# Altium integrated library TI_Logic_Flip-Flop,Latch,Register.IntLib: 2598 symbols (part 55 of 122)
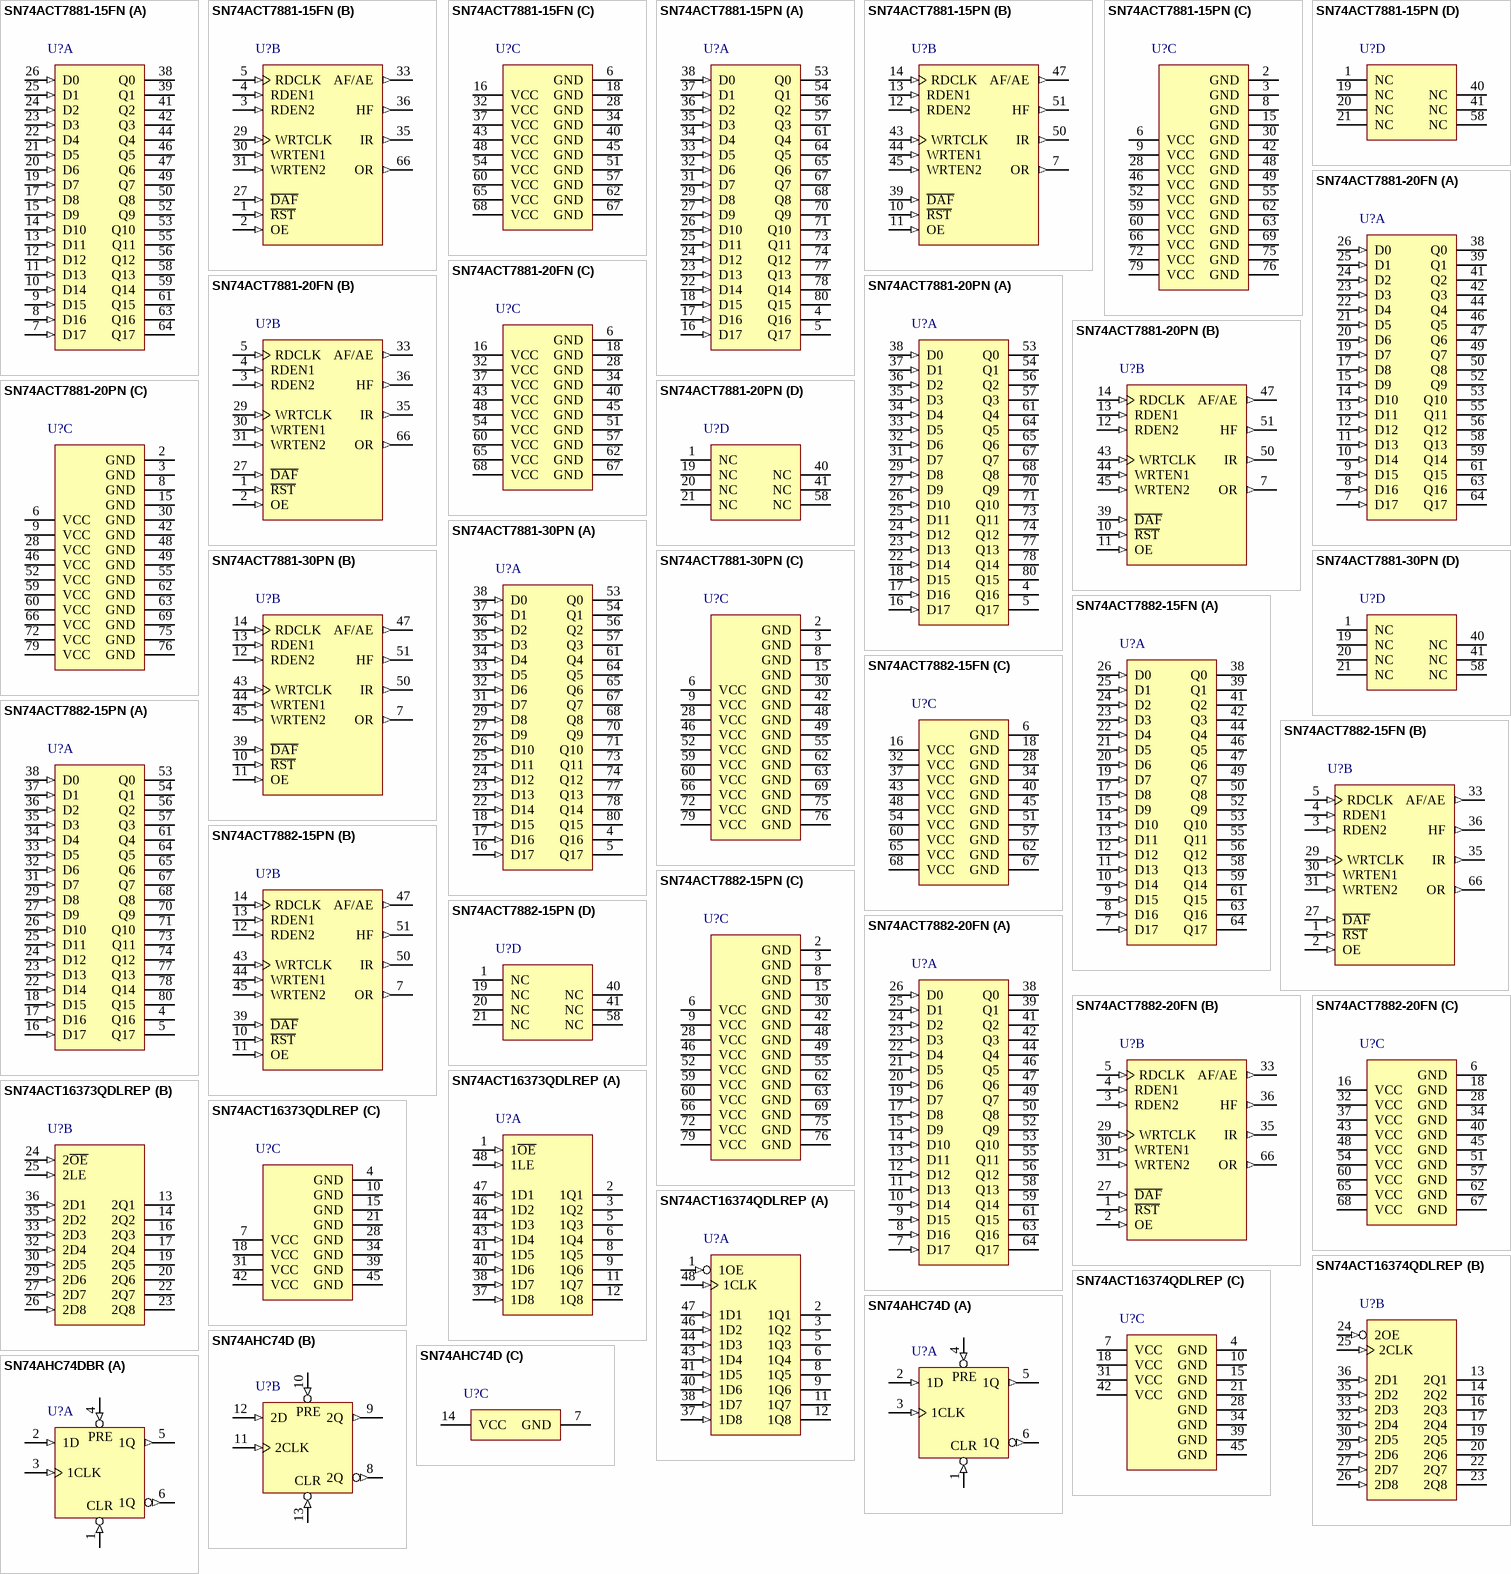
[diagram p193: symbols SN74ACT7881-15FN to SN74AHC74DBR]

## SN74ACT7882-15FN
designator U?
2048 x 18 synchronous FIFO memory, FN0068A, TUBE; Generic Part Number: SN74ACT7882; Manufacturer: Texas Instruments; PartNumber: SN74ACT7882-15FN; Fmax(MHz): 67; Voltage Nodes(V): 5; Sync/Async: S; Rating: Catalog; Output Drive(mA): -0.5; DatasheetVersion: SCAS445C; PackageReference: FN0068A; Depth: 2048; Width: 18; Code_JEDEC: MS-018; ComponentLink1Description: Manufacturer URL; ComponentLink1URL: http://www.ti.com/; ComponentLink2Description: Datasheet; ComponentLink2URL: http://www.ti.com/lit/ds/symlink/sn74act7882.pdf; ComponentLink3Description: Package Specification; ComponentLink3URL: http://www.ti.com/lit/ml/mplc004a/mplc004a.pdf
footprint FN0068A_N (Leaded Chip Carrier, 68-Leads, Body 24.33x24.33mm, Pitch 1.27mm, IPC Medium Density)
footprint FN0068A_M (Leaded Chip Carrier, 68-Leads, Body 24.33x24.33mm, Pitch 1.27mm, IPC Low Density)
footprint FN0068A_L (Leaded Chip Carrier, 68-Leads, Body 24.33x24.33mm, Pitch 1.27mm, IPC High Density)
part A pins: 7 D17 (in) "Data inputs for 18-bit-wide data to be stored in the memory. A high-to-low transition on D\A\F\ captures data for the almost-empty/almost-full offset (X) from D9-D0.", 8 D16 (in) "Data inputs for 18-bit-wide data to be stored in the memory. A high-to-low transition on D\A\F\ captures data for the almost-empty/almost-full offset (X) from D9-D0.", 9 D15 (in) "Data inputs for 18-bit-wide data to be stored in the memory. A high-to-low transition on D\A\F\ captures data for the almost-empty/almost-full offset (X) from D9-D0.", 10 D14 (in) "Data inputs for 18-bit-wide data to be stored in the memory. A high-to-low transition on D\A\F\ captures data for the almost-empty/almost-full offset (X) from D9-D0.", 11 D13 (in) "Data inputs for 18-bit-wide data to be stored in the memory. A high-to-low transition on D\A\F\ captures data for the almost-empty/almost-full offset (X) from D9-D0.", 12 D12 (in) "Data inputs for 18-bit-wide data to be stored in the memory. A high-to-low transition on D\A\F\ captures data for the almost-empty/almost-full offset (X) from D9-D0.", 13 D11 (in) "Data inputs for 18-bit-wide data to be stored in the memory. A high-to-low transition on D\A\F\ captures data for the almost-empty/almost-full offset (X) from D9-D0.", 14 D10 (in) "Data inputs for 18-bit-wide data to be stored in the memory. A high-to-low transition on D\A\F\ captures data for the almost-empty/almost-full offset (X) from D9-D0.", 15 D9 (in) "Data inputs for 18-bit-wide data to be stored in the memory. A high-to-low transition on D\A\F\ captures data for the almost-empty/almost-full offset (X) from D9-D0.", 17 D8 (in) "Data inputs for 18-bit-wide data to be stored in the memory. A high-to-low transition on D\A\F\ captures data for the almost-empty/almost-full offset (X) from D9-D0.", 19 D7 (in) "Data inputs for 18-bit-wide data to be stored in the memory. A high-to-low transition on D\A\F\ captures data for the almost-empty/almost-full offset (X) from D9-D0.", 20 D6 (in) "Data inputs for 18-bit-wide data to be stored in the memory. A high-to-low transition on D\A\F\ captures data for the almost-empty/almost-full offset (X) from D9-D0.", 21 D5 (in) "Data inputs for 18-bit-wide data to be stored in the memory. A high-to-low transition on D\A\F\ captures data for the almost-empty/almost-full offset (X) from D9-D0.", 22 D4 (in) "Data inputs for 18-bit-wide data to be stored in the memory. A high-to-low transition on D\A\F\ captures data for the almost-empty/almost-full offset (X) from D9-D0.", 23 D3 (in) "Data inputs for 18-bit-wide data to be stored in the memory. A high-to-low transition on D\A\F\ captures data for the almost-empty/almost-full offset (X) from D9-D0.", 24 D2 (in) "Data inputs for 18-bit-wide data to be stored in the memory. A high-to-low transition on D\A\F\ captures data for the almost-empty/almost-full offset (X) from D9-D0.", 25 D1 (in) "Data inputs for 18-bit-wide data to be stored in the memory. A high-to-low transition on D\A\F\ captures data for the almost-empty/almost-full offset (X) from D9-D0.", 26 D0 (in) "Data inputs for 18-bit-wide data to be stored in the memory. A high-to-low transition on D\A\F\ captures data for the almost-empty/almost-full offset (X) from D9-D0.", 38 Q0 (hiz) "Data out. The first data word to be loaded into the FIFO is moved to Q0-Q17 on the rising edge of the third RDCLK pulse to occur after the first valid write. RDEN1 and RDEN2 do not affect this operation. Following data is (See Datasheet)", 39 Q1 (hiz) "Data out. The first data word to be loaded into the FIFO is moved to Q0-Q17 on the rising edge of the third RDCLK pulse to occur after the first valid write. RDEN1 and RDEN2 do not affect this operation. Following data is (See Datasheet)", 41 Q2 (hiz) "Data out. The first data word to be loaded into the FIFO is moved to Q0-Q17 on the rising edge of the third RDCLK pulse to occur after the first valid write. RDEN1 and RDEN2 do not affect this operation. Following data is (See Datasheet)", 42 Q3 (hiz) "Data out. The first data word to be loaded into the FIFO is moved to Q0-Q17 on the rising edge of the third RDCLK pulse to occur after the first valid write. RDEN1 and RDEN2 do not affect this operation. Following data is (See Datasheet)", 44 Q4 (hiz) "Data out. The first data word to be loaded into the FIFO is moved to Q0-Q17 on the rising edge of the third RDCLK pulse to occur after the first valid write. RDEN1 and RDEN2 do not affect this operation. Following data is (See Datasheet)", 46 Q5 (hiz) "Data out. The first data word to be loaded into the FIFO is moved to Q0-Q17 on the rising edge of the third RDCLK pulse to occur after the first valid write. RDEN1 and RDEN2 do not affect this operation. Following data is (See Datasheet)", 47 Q6 (hiz) "Data out. The first data word to be loaded into the FIFO is moved to Q0-Q17 on the rising edge of the third RDCLK pulse to occur after the first valid write. RDEN1 and RDEN2 do not affect this operation. Following data is (See Datasheet)", 49 Q7 (hiz) "Data out. The first data word to be loaded into the FIFO is moved to Q0-Q17 on the rising edge of the third RDCLK pulse to occur after the first valid write. RDEN1 and RDEN2 do not affect this operation. Following data is (See Datasheet)", 50 Q8 (hiz) "Data out. The first data word to be loaded into the FIFO is moved to Q0-Q17 on the rising edge of the third RDCLK pulse to occur after the first valid write. RDEN1 and RDEN2 do not affect this operation. Following data is (See Datasheet)", 52 Q9 (hiz) "Data out. The first data word to be loaded into the FIFO is moved to Q0-Q17 on the rising edge of the third RDCLK pulse to occur after the first valid write. RDEN1 and RDEN2 do not affect this operation. Following data is (See Datasheet)", 53 Q10 (hiz) "Data out. The first data word to be loaded into the FIFO is moved to Q0-Q17 on the rising edge of the third RDCLK pulse to occur after the first valid write. RDEN1 and RDEN2 do not affect this operation. Following data is (See Datasheet)", 55 Q11 (hiz) "Data out. The first data word to be loaded into the FIFO is moved to Q0-Q17 on the rising edge of the third RDCLK pulse to occur after the first valid write. RDEN1 and RDEN2 do not affect this operation. Following data is (See Datasheet)", 56 Q12 (hiz) "Data out. The first data word to be loaded into the FIFO is moved to Q0-Q17 on the rising edge of the third RDCLK pulse to occur after the first valid write. RDEN1 and RDEN2 do not affect this operation. Following data is (See Datasheet)", 58 Q13 (hiz) "Data out. The first data word to be loaded into the FIFO is moved to Q0-Q17 on the rising edge of the third RDCLK pulse to occur after the first valid write. RDEN1 and RDEN2 do not affect this operation. Following data is (See Datasheet)", 59 Q14 (hiz) "Data out. The first data word to be loaded into the FIFO is moved to Q0-Q17 on the rising edge of the third RDCLK pulse to occur after the first valid write. RDEN1 and RDEN2 do not affect this operation. Following data is (See Datasheet)", 61 Q15 (hiz) "Data out. The first data word to be loaded into the FIFO is moved to Q0-Q17 on the rising edge of the third RDCLK pulse to occur after the first valid write. RDEN1 and RDEN2 do not affect this operation. Following data is (See Datasheet)", 63 Q16 (hiz) "Data out. The first data word to be loaded into the FIFO is moved to Q0-Q17 on the rising edge of the third RDCLK pulse to occur after the first valid write. RDEN1 and RDEN2 do not affect this operation. Following data is (See Datasheet)", 64 Q17 (hiz) "Data out. The first data word to be loaded into the FIFO is moved to Q0-Q17 on the rising edge of the third RDCLK pulse to occur after the first valid write. RDEN1 and RDEN2 do not affect this operation. Following data is (See Datasheet)"
part B pins: 1 ~{RST} (in) "Reset. A reset is accomplished by taking R\E\S\E\T\ low and generating a minimum of four RDCLK and WRTCLK cycles. This ensures that the internal read and write pointers are reset and that OR, HF, and IR are low, and AF/AE is (See Datasheet)", 2 OE (in) "Output enable. The Q0-Q17 outputs are in the high-impedance state when OE is low. OE must be high before the rising edge of RDCLK to read a word from memory.", 3 RDEN2 (in) "Read enable. RDEN1 and RDEN2 must be high before a rising edge on RDCLK to read a word out of memory. RDEN1 and RDEN2 are not used to read the first word stored in memory.", 4 RDEN1 (in) "Read enable. RDEN1 and RDEN2 must be high before a rising edge on RDCLK to read a word out of memory. RDEN1 and RDEN2 are not used to read the first word stored in memory.", 5 RDCLK (in) "Read clock. Data is read out of memory on the low-to-high transition at RDCLK if OR, OE, and RDEN1 and RDEN2 are high. RDCLK is a free-running clock and functions as the synchronizing clock for all data transfers out of the (See Datasheet)", 27 ~{DAF} (in) "Define almost-full. The high-to-low transition of D\A\F\ stores the binary value of data inputs as the AF/AE offset value (X). With D\A\F\ held low, a R\E\S\E\T\ cycle defines the AF/AE flag using X.", 29 WRTCLK (in) "Write clock. Data is written into memory on a low-to-high transition of WRTCLK if IR, WRTEN1, and WRTEN2 are high. WRTCLK is a free-running clock and functions as the synchronizing clock for all data transfers into the FIFO. (See Datasheet)", 30 WRTEN1 (in) "Write enable. WRTEN1 and WRTEN2 must be high before a rising edge on WRTCLK for a word to be written into memory. WRTEN1 and WRTEN2 do not affect the storage of the AF/AE offset value (X).", 31 WRTEN2 (in) "Write enable. WRTEN1 and WRTEN2 must be high before a rising edge on WRTCLK for a word to be written into memory. WRTEN1 and WRTEN2 do not affect the storage of the AF/AE offset value (X).", 33 AF/AE (out) "Almost-full/almost-empty flag. The AF/AE boundary is defined by the AF/AE offset value (X). Thisvalue can be programmed during reset or the default value of 256 can be used. AF/AE is high when the number of words in memory (See Datasheet)", 35 IR (out) "Input-ready flag. IR is high when the FIFO is not full and low when the device is full. During reset, IR is driven low on the rising edge of the second WRTCLK pulse. IR then is driven high on the rising edge of the second (See Datasheet)", 36 HF (out) "Half-full flag. HF is high when the FIFO contains 1024 or more words and is low when the number of words in memory is less than half the depth of the FIFO.", 66 OR (out) "Output-ready flag. OR is high when the FIFO is not empty and low when it is empty. During reset, OR is set low on the rising edge of the third RDCLK pulse. OR is set high on the rising edge of the third RDCLK pulse to occur (See Datasheet)"
part C pins: 6 GND (power), 16 VCC (power), 18 GND (power), 28 GND (power), 32 VCC (power), 34 GND (power), 37 VCC (power), 40 GND (power), 43 VCC (power), 45 GND (power), 48 VCC (power), 51 GND (power), 54 VCC (power), 57 GND (power), 60 VCC (power), 62 GND (power), 65 VCC (power), 67 GND (power), 68 VCC (power)

## SN74ACT7882-15PN
designator U?
2048 x 18 synchronous FIFO memory, PN0080A, JEDEC TRAY (10+1); Generic Part Number: SN74ACT7882; Manufacturer: Texas Instruments; PartNumber: SN74ACT7882-15PN; Fmax(MHz): 67; Voltage Nodes(V): 5; Sync/Async: S; Rating: Catalog; Output Drive(mA): -0.5; DatasheetVersion: SCAS445C; PackageReference: PN0080A; Depth: 2048; Width: 18; Code_JEDEC: MS-026; ComponentLink1Description: Manufacturer URL; ComponentLink1URL: http://www.ti.com/; ComponentLink2Description: Datasheet; ComponentLink2URL: http://www.ti.com/lit/ds/symlink/sn74act7882.pdf; ComponentLink3Description: Package Specification; ComponentLink3URL: http://www.ti.com/lit/ml/mtqf010a/mtqf010a.pdf
footprint PN0080A_N (QFP, 80-Leads, Body 12x12mm, Pitch 0.5mm, IPC Medium Density)
footprint PN0080A_M (QFP, 80-Leads, Body 12x12mm, Pitch 0.5mm, IPC Low Density)
footprint PN0080A_L (QFP, 80-Leads, Body 12x12mm, Pitch 0.5mm, IPC High Density)
part A pins: 4 Q16 (hiz) "Data out. The first data word to be loaded into the FIFO is moved to Q0-Q17 on the rising edge of the third RDCLK pulse to occur after the first valid write. RDEN1 and RDEN2 do not affect this operation. Following data is (See Datasheet)", 5 Q17 (hiz) "Data out. The first data word to be loaded into the FIFO is moved to Q0-Q17 on the rising edge of the third RDCLK pulse to occur after the first valid write. RDEN1 and RDEN2 do not affect this operation. Following data is (See Datasheet)", 16 D17 (in) "Data inputs for 18-bit-wide data to be stored in the memory. A high-to-low transition on D\A\F\ captures data for the almost-empty/almost-full offset (X) from D9-D0.", 17 D16 (in) "Data inputs for 18-bit-wide data to be stored in the memory. A high-to-low transition on D\A\F\ captures data for the almost-empty/almost-full offset (X) from D9-D0.", 18 D15 (in) "Data inputs for 18-bit-wide data to be stored in the memory. A high-to-low transition on D\A\F\ captures data for the almost-empty/almost-full offset (X) from D9-D0.", 22 D14 (in) "Data inputs for 18-bit-wide data to be stored in the memory. A high-to-low transition on D\A\F\ captures data for the almost-empty/almost-full offset (X) from D9-D0.", 23 D13 (in) "Data inputs for 18-bit-wide data to be stored in the memory. A high-to-low transition on D\A\F\ captures data for the almost-empty/almost-full offset (X) from D9-D0.", 24 D12 (in) "Data inputs for 18-bit-wide data to be stored in the memory. A high-to-low transition on D\A\F\ captures data for the almost-empty/almost-full offset (X) from D9-D0.", 25 D11 (in) "Data inputs for 18-bit-wide data to be stored in the memory. A high-to-low transition on D\A\F\ captures data for the almost-empty/almost-full offset (X) from D9-D0.", 26 D10 (in) "Data inputs for 18-bit-wide data to be stored in the memory. A high-to-low transition on D\A\F\ captures data for the almost-empty/almost-full offset (X) from D9-D0.", 27 D9 (in) "Data inputs for 18-bit-wide data to be stored in the memory. A high-to-low transition on D\A\F\ captures data for the almost-empty/almost-full offset (X) from D9-D0.", 29 D8 (in) "Data inputs for 18-bit-wide data to be stored in the memory. A high-to-low transition on D\A\F\ captures data for the almost-empty/almost-full offset (X) from D9-D0.", 31 D7 (in) "Data inputs for 18-bit-wide data to be stored in the memory. A high-to-low transition on D\A\F\ captures data for the almost-empty/almost-full offset (X) from D9-D0.", 32 D6 (in) "Data inputs for 18-bit-wide data to be stored in the memory. A high-to-low transition on D\A\F\ captures data for the almost-empty/almost-full offset (X) from D9-D0.", 33 D5 (in) "Data inputs for 18-bit-wide data to be stored in the memory. A high-to-low transition on D\A\F\ captures data for the almost-empty/almost-full offset (X) from D9-D0.", 34 D4 (in) "Data inputs for 18-bit-wide data to be stored in the memory. A high-to-low transition on D\A\F\ captures data for the almost-empty/almost-full offset (X) from D9-D0.", 35 D3 (in) "Data inputs for 18-bit-wide data to be stored in the memory. A high-to-low transition on D\A\F\ captures data for the almost-empty/almost-full offset (X) from D9-D0.", 36 D2 (in) "Data inputs for 18-bit-wide data to be stored in the memory. A high-to-low transition on D\A\F\ captures data for the almost-empty/almost-full offset (X) from D9-D0.", 37 D1 (in) "Data inputs for 18-bit-wide data to be stored in the memory. A high-to-low transition on D\A\F\ captures data for the almost-empty/almost-full offset (X) from D9-D0.", 38 D0 (in) "Data inputs for 18-bit-wide data to be stored in the memory. A high-to-low transition on D\A\F\ captures data for the almost-empty/almost-full offset (X) from D9-D0.", 53 Q0 (hiz) "Data out. The first data word to be loaded into the FIFO is moved to Q0-Q17 on the rising edge of the third RDCLK pulse to occur after the first valid write. RDEN1 and RDEN2 do not affect this operation. Following data is (See Datasheet)", 54 Q1 (hiz) "Data out. The first data word to be loaded into the FIFO is moved to Q0-Q17 on the rising edge of the third RDCLK pulse to occur after the first valid write. RDEN1 and RDEN2 do not affect this operation. Following data is (See Datasheet)", 56 Q2 (hiz) "Data out. The first data word to be loaded into the FIFO is moved to Q0-Q17 on the rising edge of the third RDCLK pulse to occur after the first valid write. RDEN1 and RDEN2 do not affect this operation. Following data is (See Datasheet)", 57 Q3 (hiz) "Data out. The first data word to be loaded into the FIFO is moved to Q0-Q17 on the rising edge of the third RDCLK pulse to occur after the first valid write. RDEN1 and RDEN2 do not affect this operation. Following data is (See Datasheet)", 61 Q4 (hiz) "Data out. The first data word to be loaded into the FIFO is moved to Q0-Q17 on the rising edge of the third RDCLK pulse to occur after the first valid write. RDEN1 and RDEN2 do not affect this operation. Following data is (See Datasheet)", 64 Q5 (hiz) "Data out. The first data word to be loaded into the FIFO is moved to Q0-Q17 on the rising edge of the third RDCLK pulse to occur after the first valid write. RDEN1 and RDEN2 do not affect this operation. Following data is (See Datasheet)", 65 Q6 (hiz) "Data out. The first data word to be loaded into the FIFO is moved to Q0-Q17 on the rising edge of the third RDCLK pulse to occur after the first valid write. RDEN1 and RDEN2 do not affect this operation. Following data is (See Datasheet)", 67 Q7 (hiz) "Data out. The first data word to be loaded into the FIFO is moved to Q0-Q17 on the rising edge of the third RDCLK pulse to occur after the first valid write. RDEN1 and RDEN2 do not affect this operation. Following data is (See Datasheet)", 68 Q8 (hiz) "Data out. The first data word to be loaded into the FIFO is moved to Q0-Q17 on the rising edge of the third RDCLK pulse to occur after the first valid write. RDEN1 and RDEN2 do not affect this operation. Following data is (See Datasheet)", 70 Q9 (hiz) "Data out. The first data word to be loaded into the FIFO is moved to Q0-Q17 on the rising edge of the third RDCLK pulse to occur after the first valid write. RDEN1 and RDEN2 do not affect this operation. Following data is (See Datasheet)", 71 Q10 (hiz) "Data out. The first data word to be loaded into the FIFO is moved to Q0-Q17 on the rising edge of the third RDCLK pulse to occur after the first valid write. RDEN1 and RDEN2 do not affect this operation. Following data is (See Datasheet)", 73 Q11 (hiz) "Data out. The first data word to be loaded into the FIFO is moved to Q0-Q17 on the rising edge of the third RDCLK pulse to occur after the first valid write. RDEN1 and RDEN2 do not affect this operation. Following data is (See Datasheet)", 74 Q12 (hiz) "Data out. The first data word to be loaded into the FIFO is moved to Q0-Q17 on the rising edge of the third RDCLK pulse to occur after the first valid write. RDEN1 and RDEN2 do not affect this operation. Following data is (See Datasheet)", 77 Q13 (hiz) "Data out. The first data word to be loaded into the FIFO is moved to Q0-Q17 on the rising edge of the third RDCLK pulse to occur after the first valid write. RDEN1 and RDEN2 do not affect this operation. Following data is (See Datasheet)", 78 Q14 (hiz) "Data out. The first data word to be loaded into the FIFO is moved to Q0-Q17 on the rising edge of the third RDCLK pulse to occur after the first valid write. RDEN1 and RDEN2 do not affect this operation. Following data is (See Datasheet)", 80 Q15 (hiz) "Data out. The first data word to be loaded into the FIFO is moved to Q0-Q17 on the rising edge of the third RDCLK pulse to occur after the first valid write. RDEN1 and RDEN2 do not affect this operation. Following data is (See Datasheet)"
part B pins: 7 OR (out) "Output-ready flag. OR is high when the FIFO is not empty and low when it is empty. During reset, OR is set low on the rising edge of the third RDCLK pulse. OR is set high on the rising edge of the third RDCLK pulse to occur (See Datasheet)", 10 ~{RST} (in) "Reset. A reset is accomplished by taking R\E\S\E\T\ low and generating a minimum of four RDCLK and WRTCLK cycles. This ensures that the internal read and write pointers are reset and that OR, HF, and IR are low, and AF/AE is (See Datasheet)", 11 OE (in) "Output enable. The Q0-Q17 outputs are in the high-impedance state when OE is low. OE must be high before the rising edge of RDCLK to read a word from memory.", 12 RDEN2 (in) "Read enable. RDEN1 and RDEN2 must be high before a rising edge on RDCLK to read a word out of memory. RDEN1 and RDEN2 are not used to read the first word stored in memory.", 13 RDEN1 (in) "Read enable. RDEN1 and RDEN2 must be high before a rising edge on RDCLK to read a word out of memory. RDEN1 and RDEN2 are not used to read the first word stored in memory.", 14 RDCLK (in) "Read clock. Data is read out of memory on the low-to-high transition at RDCLK if OR, OE, and RDEN1 and RDEN2 are high. RDCLK is a free-running clock and functions as the synchronizing clock for all data transfers out of the (See Datasheet)", 39 ~{DAF} (in) "Define almost-full. The high-to-low transition of D\A\F\ stores the binary value of data inputs as the AF/AE offset value (X). With D\A\F\ held low, a R\E\S\E\T\ cycle defines the AF/AE flag using X.", 43 WRTCLK (in) "Write clock. Data is written into memory on a low-to-high transition of WRTCLK if IR, WRTEN1, and WRTEN2 are high. WRTCLK is a free-running clock and functions as the synchronizing clock for all data transfers into the FIFO. (See Datasheet)", 44 WRTEN1 (in) "Write enable. WRTEN1 and WRTEN2 must be high before a rising edge on WRTCLK for a word to be written into memory. WRTEN1 and WRTEN2 do not affect the storage of the AF/AE offset value (X).", 45 WRTEN2 (in) "Write enable. WRTEN1 and WRTEN2 must be high before a rising edge on WRTCLK for a word to be written into memory. WRTEN1 and WRTEN2 do not affect the storage of the AF/AE offset value (X).", 47 AF/AE (out) "Almost-full/almost-empty flag. The AF/AE boundary is defined by the AF/AE offset value (X). Thisvalue can be programmed during reset or the default value of 256 can be used. AF/AE is high when the number of words in memory (See Datasheet)", 50 IR (out) "Input-ready flag. IR is high when the FIFO is not full and low when the device is full. During reset, IR is driven low on the rising edge of the second WRTCLK pulse. IR then is driven high on the rising edge of the second (See Datasheet)", 51 HF (out) "Half-full flag. HF is high when the FIFO contains 1024 or more words and is low when the number of words in memory is less than half the depth of the FIFO."
part C pins: 2 GND (power), 3 GND (power), 6 VCC (power), 8 GND (power), 9 VCC (power), 15 GND (power), 28 VCC (power), 30 GND (power), 42 GND (power), 46 VCC (power), 48 GND (power), 49 GND (power), 52 VCC (power), 55 GND (power), 59 VCC (power), 60 VCC (power), 62 GND (power), 63 GND (power), 66 VCC (power), 69 GND (power), 72 VCC (power), 75 GND (power), 76 GND (power), 79 VCC (power)
part D pins: 1 NC, 19 NC, 20 NC, 21 NC, 40 NC, 41 NC, 58 NC

## SN74ACT7882-20FN
designator U?
2048 x 18 synchronous FIFO memory, FN0068A, TUBE; Generic Part Number: SN74ACT7882; Manufacturer: Texas Instruments; PartNumber: SN74ACT7882-20FN; Fmax(MHz): 67; Voltage Nodes(V): 5; Sync/Async: S; Rating: Catalog; Output Drive(mA): -0.5; DatasheetVersion: SCAS445C; PackageReference: FN0068A; Depth: 2048; Width: 18; Code_JEDEC: MS-018; ComponentLink1Description: Manufacturer URL; ComponentLink1URL: http://www.ti.com/; ComponentLink2Description: Datasheet; ComponentLink2URL: http://www.ti.com/lit/ds/symlink/sn74act7882.pdf; ComponentLink3Description: Package Specification; ComponentLink3URL: http://www.ti.com/lit/ml/mplc004a/mplc004a.pdf
footprint FN0068A_N (Leaded Chip Carrier, 68-Leads, Body 24.33x24.33mm, Pitch 1.27mm, IPC Medium Density)
footprint FN0068A_M (Leaded Chip Carrier, 68-Leads, Body 24.33x24.33mm, Pitch 1.27mm, IPC Low Density)
footprint FN0068A_L (Leaded Chip Carrier, 68-Leads, Body 24.33x24.33mm, Pitch 1.27mm, IPC High Density)
part A pins: 7 D17 (in) "Data inputs for 18-bit-wide data to be stored in the memory. A high-to-low transition on D\A\F\ captures data for the almost-empty/almost-full offset (X) from D9-D0.", 8 D16 (in) "Data inputs for 18-bit-wide data to be stored in the memory. A high-to-low transition on D\A\F\ captures data for the almost-empty/almost-full offset (X) from D9-D0.", 9 D15 (in) "Data inputs for 18-bit-wide data to be stored in the memory. A high-to-low transition on D\A\F\ captures data for the almost-empty/almost-full offset (X) from D9-D0.", 10 D14 (in) "Data inputs for 18-bit-wide data to be stored in the memory. A high-to-low transition on D\A\F\ captures data for the almost-empty/almost-full offset (X) from D9-D0.", 11 D13 (in) "Data inputs for 18-bit-wide data to be stored in the memory. A high-to-low transition on D\A\F\ captures data for the almost-empty/almost-full offset (X) from D9-D0.", 12 D12 (in) "Data inputs for 18-bit-wide data to be stored in the memory. A high-to-low transition on D\A\F\ captures data for the almost-empty/almost-full offset (X) from D9-D0.", 13 D11 (in) "Data inputs for 18-bit-wide data to be stored in the memory. A high-to-low transition on D\A\F\ captures data for the almost-empty/almost-full offset (X) from D9-D0.", 14 D10 (in) "Data inputs for 18-bit-wide data to be stored in the memory. A high-to-low transition on D\A\F\ captures data for the almost-empty/almost-full offset (X) from D9-D0.", 15 D9 (in) "Data inputs for 18-bit-wide data to be stored in the memory. A high-to-low transition on D\A\F\ captures data for the almost-empty/almost-full offset (X) from D9-D0.", 17 D8 (in) "Data inputs for 18-bit-wide data to be stored in the memory. A high-to-low transition on D\A\F\ captures data for the almost-empty/almost-full offset (X) from D9-D0.", 19 D7 (in) "Data inputs for 18-bit-wide data to be stored in the memory. A high-to-low transition on D\A\F\ captures data for the almost-empty/almost-full offset (X) from D9-D0.", 20 D6 (in) "Data inputs for 18-bit-wide data to be stored in the memory. A high-to-low transition on D\A\F\ captures data for the almost-empty/almost-full offset (X) from D9-D0.", 21 D5 (in) "Data inputs for 18-bit-wide data to be stored in the memory. A high-to-low transition on D\A\F\ captures data for the almost-empty/almost-full offset (X) from D9-D0.", 22 D4 (in) "Data inputs for 18-bit-wide data to be stored in the memory. A high-to-low transition on D\A\F\ captures data for the almost-empty/almost-full offset (X) from D9-D0.", 23 D3 (in) "Data inputs for 18-bit-wide data to be stored in the memory. A high-to-low transition on D\A\F\ captures data for the almost-empty/almost-full offset (X) from D9-D0.", 24 D2 (in) "Data inputs for 18-bit-wide data to be stored in the memory. A high-to-low transition on D\A\F\ captures data for the almost-empty/almost-full offset (X) from D9-D0.", 25 D1 (in) "Data inputs for 18-bit-wide data to be stored in the memory. A high-to-low transition on D\A\F\ captures data for the almost-empty/almost-full offset (X) from D9-D0.", 26 D0 (in) "Data inputs for 18-bit-wide data to be stored in the memory. A high-to-low transition on D\A\F\ captures data for the almost-empty/almost-full offset (X) from D9-D0.", 38 Q0 (hiz) "Data out. The first data word to be loaded into the FIFO is moved to Q0-Q17 on the rising edge of the third RDCLK pulse to occur after the first valid write. RDEN1 and RDEN2 do not affect this operation. Following data is (See Datasheet)", 39 Q1 (hiz) "Data out. The first data word to be loaded into the FIFO is moved to Q0-Q17 on the rising edge of the third RDCLK pulse to occur after the first valid write. RDEN1 and RDEN2 do not affect this operation. Following data is (See Datasheet)", 41 Q2 (hiz) "Data out. The first data word to be loaded into the FIFO is moved to Q0-Q17 on the rising edge of the third RDCLK pulse to occur after the first valid write. RDEN1 and RDEN2 do not affect this operation. Following data is (See Datasheet)", 42 Q3 (hiz) "Data out. The first data word to be loaded into the FIFO is moved to Q0-Q17 on the rising edge of the third RDCLK pulse to occur after the first valid write. RDEN1 and RDEN2 do not affect this operation. Following data is (See Datasheet)", 44 Q4 (hiz) "Data out. The first data word to be loaded into the FIFO is moved to Q0-Q17 on the rising edge of the third RDCLK pulse to occur after the first valid write. RDEN1 and RDEN2 do not affect this operation. Following data is (See Datasheet)", 46 Q5 (hiz) "Data out. The first data word to be loaded into the FIFO is moved to Q0-Q17 on the rising edge of the third RDCLK pulse to occur after the first valid write. RDEN1 and RDEN2 do not affect this operation. Following data is (See Datasheet)", 47 Q6 (hiz) "Data out. The first data word to be loaded into the FIFO is moved to Q0-Q17 on the rising edge of the third RDCLK pulse to occur after the first valid write. RDEN1 and RDEN2 do not affect this operation. Following data is (See Datasheet)", 49 Q7 (hiz) "Data out. The first data word to be loaded into the FIFO is moved to Q0-Q17 on the rising edge of the third RDCLK pulse to occur after the first valid write. RDEN1 and RDEN2 do not affect this operation. Following data is (See Datasheet)", 50 Q8 (hiz) "Data out. The first data word to be loaded into the FIFO is moved to Q0-Q17 on the rising edge of the third RDCLK pulse to occur after the first valid write. RDEN1 and RDEN2 do not affect this operation. Following data is (See Datasheet)", 52 Q9 (hiz) "Data out. The first data word to be loaded into the FIFO is moved to Q0-Q17 on the rising edge of the third RDCLK pulse to occur after the first valid write. RDEN1 and RDEN2 do not affect this operation. Following data is (See Datasheet)", 53 Q10 (hiz) "Data out. The first data word to be loaded into the FIFO is moved to Q0-Q17 on the rising edge of the third RDCLK pulse to occur after the first valid write. RDEN1 and RDEN2 do not affect this operation. Following data is (See Datasheet)", 55 Q11 (hiz) "Data out. The first data word to be loaded into the FIFO is moved to Q0-Q17 on the rising edge of the third RDCLK pulse to occur after the first valid write. RDEN1 and RDEN2 do not affect this operation. Following data is (See Datasheet)", 56 Q12 (hiz) "Data out. The first data word to be loaded into the FIFO is moved to Q0-Q17 on the rising edge of the third RDCLK pulse to occur after the first valid write. RDEN1 and RDEN2 do not affect this operation. Following data is (See Datasheet)", 58 Q13 (hiz) "Data out. The first data word to be loaded into the FIFO is moved to Q0-Q17 on the rising edge of the third RDCLK pulse to occur after the first valid write. RDEN1 and RDEN2 do not affect this operation. Following data is (See Datasheet)", 59 Q14 (hiz) "Data out. The first data word to be loaded into the FIFO is moved to Q0-Q17 on the rising edge of the third RDCLK pulse to occur after the first valid write. RDEN1 and RDEN2 do not affect this operation. Following data is (See Datasheet)", 61 Q15 (hiz) "Data out. The first data word to be loaded into the FIFO is moved to Q0-Q17 on the rising edge of the third RDCLK pulse to occur after the first valid write. RDEN1 and RDEN2 do not affect this operation. Following data is (See Datasheet)", 63 Q16 (hiz) "Data out. The first data word to be loaded into the FIFO is moved to Q0-Q17 on the rising edge of the third RDCLK pulse to occur after the first valid write. RDEN1 and RDEN2 do not affect this operation. Following data is (See Datasheet)", 64 Q17 (hiz) "Data out. The first data word to be loaded into the FIFO is moved to Q0-Q17 on the rising edge of the third RDCLK pulse to occur after the first valid write. RDEN1 and RDEN2 do not affect this operation. Following data is (See Datasheet)"
part B pins: 1 ~{RST} (in) "Reset. A reset is accomplished by taking R\E\S\E\T\ low and generating a minimum of four RDCLK and WRTCLK cycles. This ensures that the internal read and write pointers are reset and that OR, HF, and IR are low, and AF/AE is (See Datasheet)", 2 OE (in) "Output enable. The Q0-Q17 outputs are in the high-impedance state when OE is low. OE must be high before the rising edge of RDCLK to read a word from memory.", 3 RDEN2 (in) "Read enable. RDEN1 and RDEN2 must be high before a rising edge on RDCLK to read a word out of memory. RDEN1 and RDEN2 are not used to read the first word stored in memory.", 4 RDEN1 (in) "Read enable. RDEN1 and RDEN2 must be high before a rising edge on RDCLK to read a word out of memory. RDEN1 and RDEN2 are not used to read the first word stored in memory.", 5 RDCLK (in) "Read clock. Data is read out of memory on the low-to-high transition at RDCLK if OR, OE, and RDEN1 and RDEN2 are high. RDCLK is a free-running clock and functions as the synchronizing clock for all data transfers out of the (See Datasheet)", 27 ~{DAF} (in) "Define almost-full. The high-to-low transition of D\A\F\ stores the binary value of data inputs as the AF/AE offset value (X). With D\A\F\ held low, a R\E\S\E\T\ cycle defines the AF/AE flag using X.", 29 WRTCLK (in) "Write clock. Data is written into memory on a low-to-high transition of WRTCLK if IR, WRTEN1, and WRTEN2 are high. WRTCLK is a free-running clock and functions as the synchronizing clock for all data transfers into the FIFO. (See Datasheet)", 30 WRTEN1 (in) "Write enable. WRTEN1 and WRTEN2 must be high before a rising edge on WRTCLK for a word to be written into memory. WRTEN1 and WRTEN2 do not affect the storage of the AF/AE offset value (X).", 31 WRTEN2 (in) "Write enable. WRTEN1 and WRTEN2 must be high before a rising edge on WRTCLK for a word to be written into memory. WRTEN1 and WRTEN2 do not affect the storage of the AF/AE offset value (X).", 33 AF/AE (out) "Almost-full/almost-empty flag. The AF/AE boundary is defined by the AF/AE offset value (X). Thisvalue can be programmed during reset or the default value of 256 can be used. AF/AE is high when the number of words in memory (See Datasheet)", 35 IR (out) "Input-ready flag. IR is high when the FIFO is not full and low when the device is full. During reset, IR is driven low on the rising edge of the second WRTCLK pulse. IR then is driven high on the rising edge of the second (See Datasheet)", 36 HF (out) "Half-full flag. HF is high when the FIFO contains 1024 or more words and is low when the number of words in memory is less than half the depth of the FIFO.", 66 OR (out) "Output-ready flag. OR is high when the FIFO is not empty and low when it is empty. During reset, OR is set low on the rising edge of the third RDCLK pulse. OR is set high on the rising edge of the third RDCLK pulse to occur (See Datasheet)"
part C pins: 6 GND (power), 16 VCC (power), 18 GND (power), 28 GND (power), 32 VCC (power), 34 GND (power), 37 VCC (power), 40 GND (power), 43 VCC (power), 45 GND (power), 48 VCC (power), 51 GND (power), 54 VCC (power), 57 GND (power), 60 VCC (power), 62 GND (power), 65 VCC (power), 67 GND (power), 68 VCC (power)

## SN74ACT16373QDLREP
designator U?
Enhanced Product 16-Bit D-Type Transparent Latch With 3-State Outputs, DL0048A, LARGE T&R; Generic Part Number: SN74ACT16373-EP; Manufacturer: Texas Instruments; PartNumber: SN74ACT16373QDLREP; VCC(Min)(V): 4.5; VCC(Max)(V): 5.5; Output Type: CMOS; Logic: True; Static Current: 160 uA; Rating: HiRel Enhanced Product; Technology Family: ACT; Schmitt Trigger: No; tpd @ Nom Voltage(Max)(ns): 10.8; DatasheetVersion: SCAS678B; PackageReference: DL0048A; Supplier 1: Digi-Key; Supplier Part Number 1: 296-20726-2-ND; Supplier 2: Digi-Key; Supplier Part Number 2: 296-20726-1-ND; Supplier 3: Digi-Key; Supplier Part Number 3: 296-20726-6-ND; Supplier 4: Mouser; Supplier Part Number 4: 595-74ACT16373QDLREP; Operating Temperature Range(C): -40 to 125; Code_JEDEC: MO-118; ComponentLink1Description: Manufacturer URL; ComponentLink1URL: http://www.ti.com/; ComponentLink2Description: Datasheet; ComponentLink2URL: http://www.ti.com/lit/ds/symlink/sn74act16373-ep.pdf; ComponentLink3Description: Package Specification; ComponentLink3URL: http://www.ti.com/lit/ml/mpds490/mpds490.pdf
footprint DL0048A_N (SOP, 48-Leads, Body 7.6x16mm, Pitch 0.635mm, IPC Medium Density)
footprint DL0048A_M (SOP, 48-Leads, Body 7.6x16mm, Pitch 0.635mm, IPC Low Density)
footprint DL0048A_L (SOP, 48-Leads, Body 7.6x16mm, Pitch 0.635mm, IPC High Density)
part A pins: 1 1~{OE} (in) "Output Enable 1", 2 1Q1 (hiz) "1Q1 Output", 3 1Q2 (hiz) "1Q2 Output", 5 1Q3 (hiz) "1Q3 Output", 6 1Q4 (hiz) "1Q4 Output", 8 1Q5 (hiz) "1Q5 Output", 9 1Q6 (hiz) "1Q6 Output", 11 1Q7 (hiz) "1Q7 Output", 12 1Q8 (hiz) "1Q8 Output", 37 1D8 (in) "1D8 Input", 38 1D7 (in) "1D7 Input", 40 1D6 (in) "1D6 Input", 41 1D5 (in) "1D5 Input", 43 1D4 (in) "1D4 Input", 44 1D3 (in) "1D3 Input", 46 1D2 (in) "1D2 Input", 47 1D1 (in) "1D1 Input", 48 1LE (in) "Latch Enable 1"
part B pins: 13 2Q1 (hiz) "2Q1 Output", 14 2Q2 (hiz) "2Q2 Output", 16 2Q3 (hiz) "2Q3 Output", 17 2Q4 (hiz) "2Q4 Output", 19 2Q5 (hiz) "Output", 20 2Q6 (hiz) "2Q6 Output", 22 2Q7 (hiz) "2Q7 Output", 23 2Q8 (hiz) "2Q8 Output", 24 2~{OE} (in) "Output Enable 2", 25 2LE (in) "2LE Input", 26 2D8 (in) "2D8 Input", 27 2D7 (in) "2D7 Input", 29 2D6 (in) "2D6 Input", 30 2D5 (in) "2D5 Input", 32 2D4 (in) "2D4 Input", 33 2D3 (in) "2D3 Input", 35 2D2 (in) "2D2 Input", 36 2D1 (in) "2D1 Input"
part C pins: 4 GND (power) "Ground Pin", 7 VCC (power) "Power Pin", 10 GND (power) "Ground Pin", 15 GND (power) "Ground Pin", 18 VCC (power) "Power Pin", 21 GND (power) "Ground Pin", 28 GND (power) "Ground Pin", 31 VCC (power) "Power Pin", 34 GND (power) "Ground Pin", 39 GND (power) "Ground Pin", 42 VCC (power) "Power Pin", 45 GND (power) "Ground Pin"

## SN74ACT16374QDLREP
designator U?
Enhanced Product 16-Bit D-Type Edge-Triggered Flip-Flop With 3-State Outputs, DL0048A, LARGE T&R; Generic Part Number: SN74ACT16374-EP; Manufacturer: Texas Instruments; PartNumber: SN74ACT16374QDLREP; VCC(Min)(V): 4.5; VCC(Max)(V): 5.5; Output Type: CMOS; Input Type: TTL; Bits(#): 16; Rating: HiRel Enhanced Product; Technology Family: ACT; Schmitt Trigger: No; Output Drive (IOL/IOH)(Max)(mA): 16/-16; Output Logic: Inverted; tpd @ Nom Voltage(Max)(ns): 10.9; DatasheetVersion: SCAS679B; PackageReference: DL0048A; Supplier 1: Digi-Key; Supplier Part Number 1: 296-22255-2-ND; Supplier 2: Digi-Key; Supplier Part Number 2: 296-22255-1-ND; Supplier 3: Digi-Key; Supplier Part Number 3: 296-22255-6-ND; Supplier 4: Mouser; Supplier Part Number 4: 595-74ACT16374QDLREP; Operating Temperature Range(C): -40 to 125; Code_JEDEC: MO-118; ComponentLink1Description: Manufacturer URL; ComponentLink1URL: http://www.ti.com/; ComponentLink2Description: Datasheet; ComponentLink2URL: http://www.ti.com/lit/ds/symlink/sn74act16374-ep.pdf; ComponentLink3Description: Package Specification; ComponentLink3URL: http://www.ti.com/lit/ml/mpds490/mpds490.pdf
footprint DL0048A_N (SOP, 48-Leads, Body 7.6x16mm, Pitch 0.635mm, IPC Medium Density)
footprint DL0048A_M (SOP, 48-Leads, Body 7.6x16mm, Pitch 0.635mm, IPC Low Density)
footprint DL0048A_L (SOP, 48-Leads, Body 7.6x16mm, Pitch 0.635mm, IPC High Density)
part A pins: 1 1OE (in), 2 1Q1 (hiz), 3 1Q2 (hiz), 5 1Q3 (hiz), 6 1Q4 (hiz), 8 1Q5 (hiz), 9 1Q6 (hiz), 11 1Q7 (hiz), 12 1Q8 (hiz), 37 1D8 (in), 38 1D7 (in), 40 1D6 (in), 41 1D5 (in), 43 1D4 (in), 44 1D3 (in), 46 1D2 (in), 47 1D1 (in), 48 1CLK (in)
part B pins: 13 2Q1 (hiz), 14 2Q2 (hiz), 16 2Q3 (hiz), 17 2Q4 (hiz), 19 2Q5 (hiz), 20 2Q6 (hiz), 22 2Q7 (hiz), 23 2Q8 (hiz), 24 2OE (in), 25 2CLK (in), 26 2D8 (in), 27 2D7 (in), 29 2D6 (in), 30 2D5 (in), 32 2D4 (in), 33 2D3 (in), 35 2D2 (in), 36 2D1 (in)
part C pins: 4 GND (power), 7 VCC (power), 10 GND (power), 15 GND (power), 18 VCC (power), 21 GND (power), 28 GND (power), 31 VCC (power), 34 GND (power), 39 GND (power), 42 VCC (power), 45 GND (power)

## SN74AHC74D
designator U?
Dual Positive-Edge-Triggered D-Type Flip-Flops With Clear and Preset, D0014A, TUBE; Generic Part Number: SN74AHC74; Manufacturer: Texas Instruments; PartNumber: SN74AHC74D; VCC(Min)(V): 2; VCC(Max)(V): 5.5; Output Type: CMOS; Output: 3S; ICC @ Nom Voltage(Max)(mA): 0.02; F @ Nom Voltage(Max)(Mhz): 110; Rating: Catalog; Technology Family: AHC; Voltage(Nom)(V): 3.3,5; Schmitt Trigger: No; Output Drive (IOL/IOH)(Max)(mA): 50/-50; Output Logic: Inverted,Non-inverted; tpd @ Nom Voltage(Max)(ns): 17.5,10.5; DatasheetVersion: SCLS255K; PackageReference: D0014A; Supplier 1: Digi-Key; Supplier Part Number 1: 296-1105-5-ND; Supplier 2: Farnell; Supplier Part Number 2: 1287452; Supplier 3: Newark; Supplier Part Number 3: 35K0777; Supplier 4: Mouser; Supplier Part Number 4: 595-SN74AHC74D; Input Type: CMOS; Bits(#): 2; Operating Temperature Range(C): -40 to 125; 3-State Output: No; Code_JEDEC: MS-012; ComponentLink1Description: Manufacturer URL; ComponentLink1URL: http://www.ti.com/; ComponentLink2Description: Datasheet; ComponentLink2URL: http://www.ti.com/lit/ds/symlink/sn74ahc74.pdf; ComponentLink3Description: Package Specification; ComponentLink3URL: http://www.ti.com/lit/ml/mpds177g/mpds177g.pdf
footprint D0014A_N (SOIC, 14-Leads, Body 8.75x4mm, Pitch 1.27mm, IPC Medium Density)
footprint D0014A_M (SOIC, 14-Leads, Body 8.75x4mm, Pitch 1.27mm, IPC Low Density)
footprint D0014A_L (SOIC, 14-Leads, Body 8.75x4mm, Pitch 1.27mm, IPC High Density)
part A pins: 1 1~{CLR} (in), 2 1D (in), 3 1CLK (in), 4 1~{PRE} (in), 5 1Q (out), 6 1Q (out)
part B pins: 8 2Q (out), 9 2Q (out), 10 2~{PRE} (in), 11 2CLK (in), 12 2D (in), 13 2~{CLR} (in)
part C pins: 7 GND (power), 14 VCC (power)
part A text: PRE; CLR
part B text: PRE; CLR

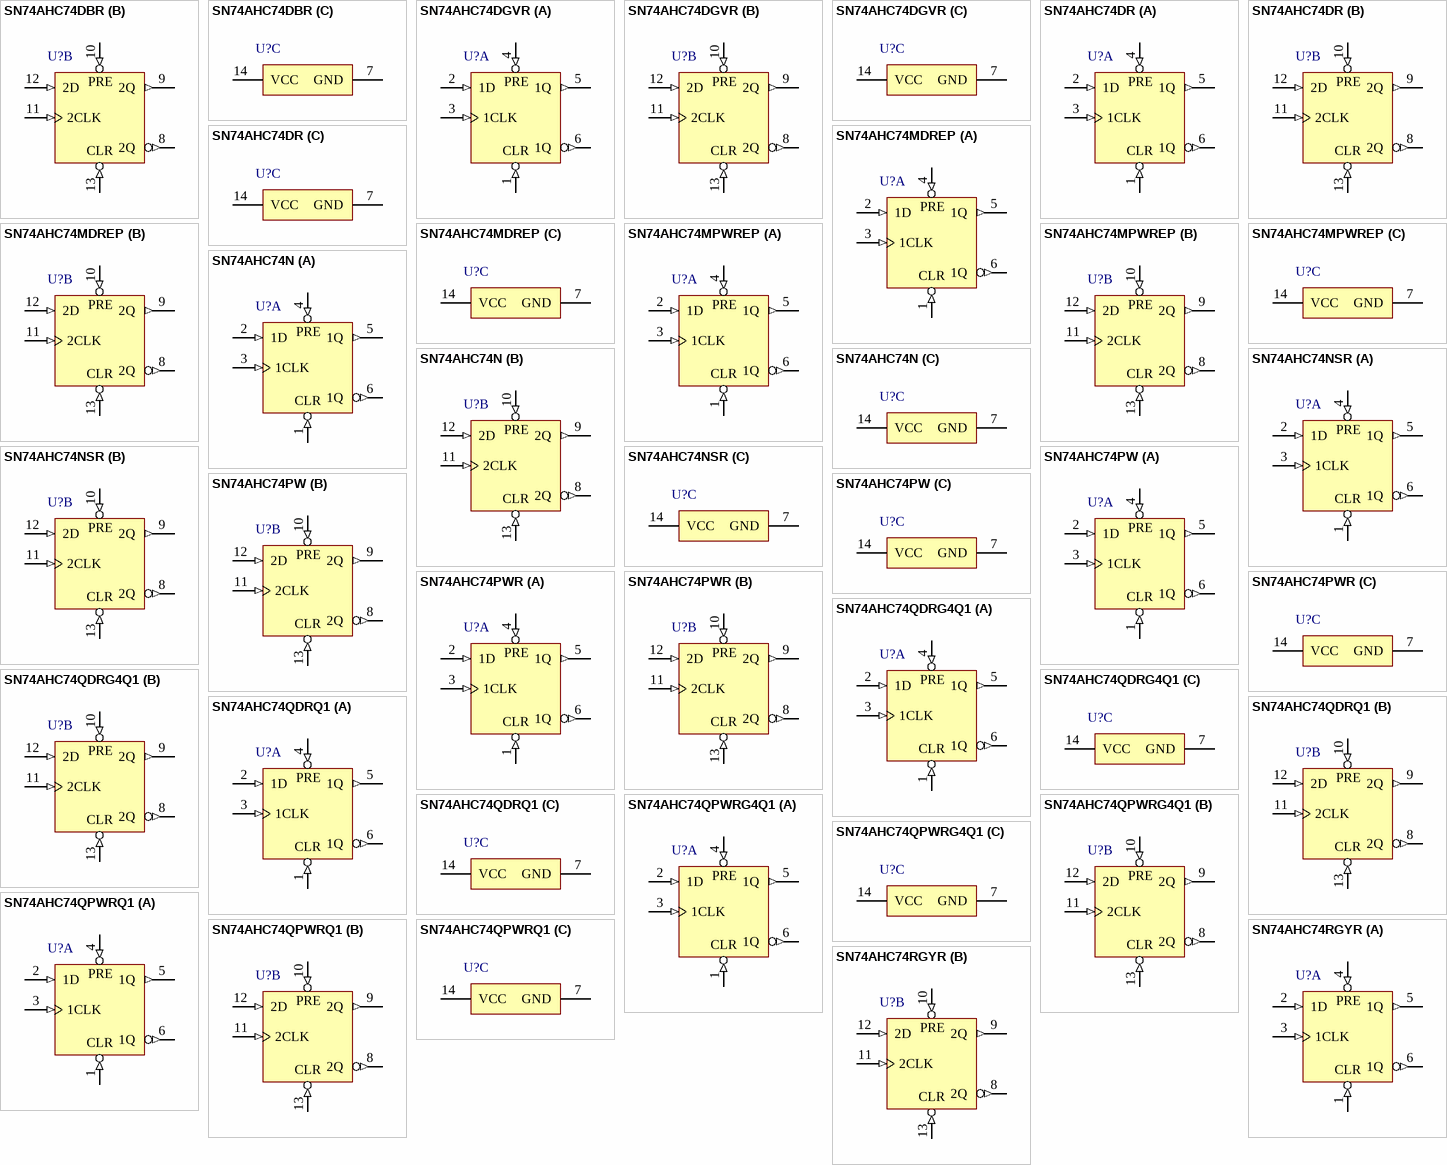
[diagram p64: symbols SN74AHC74DBR to SN74AHC74RGYR]

## SN74AHC74DBR
designator U?
Dual Positive-Edge-Triggered D-Type Flip-Flops With Clear and Preset, DB0014A, LARGE T&R; Generic Part Number: SN74AHC74; Manufacturer: Texas Instruments; PartNumber: SN74AHC74DBR; VCC(Min)(V): 2; VCC(Max)(V): 5.5; Output Type: CMOS; Output: 3S; ICC @ Nom Voltage(Max)(mA): 0.02; F @ Nom Voltage(Max)(Mhz): 110; Rating: Catalog; Technology Family: AHC; Voltage(Nom)(V): 3.3,5; Schmitt Trigger: No; Output Drive (IOL/IOH)(Max)(mA): 50/-50; Output Logic: Inverted,Non-inverted; tpd @ Nom Voltage(Max)(ns): 17.5,10.5; DatasheetVersion: SCLS255K; PackageReference: DB0014A; Supplier 1: Digi-Key; Supplier Part Number 1: 296-4621-2-ND; Supplier 2: Digi-Key; Supplier Part Number 2: 296-4621-1-ND; Supplier 3: Digi-Key; Supplier Part Number 3: 296-4621-6-ND; Supplier 4: Mouser; Supplier Part Number 4: 595-SN74AHC74DBR; Input Type: CMOS; Bits(#): 2; Operating Temperature Range(C): -40 to 125; 3-State Output: No; Code_JEDEC: MO-150; ComponentLink1Description: Manufacturer URL; ComponentLink1URL: http://www.ti.com/; ComponentLink2Description: Datasheet; ComponentLink2URL: http://www.ti.com/lit/ds/symlink/sn74ahc74.pdf; ComponentLink3Description: Package Specification; ComponentLink3URL: http://www.ti.com/lit/ml/msso002e/msso002e.pdf
footprint DB0014A_N (SOP, 14-Leads, Body 5.6x6.5mm, Pitch 0.65mm, IPC Medium Density)
footprint DB0014A_M (SOP, 14-Leads, Body 5.6x6.5mm, Pitch 0.65mm, IPC Low Density)
footprint DB0014A_L (SOP, 14-Leads, Body 5.6x6.5mm, Pitch 0.65mm, IPC High Density)
part A pins: 1 1~{CLR} (in), 2 1D (in), 3 1CLK (in), 4 1~{PRE} (in), 5 1Q (out), 6 1Q (out)
part B pins: 8 2Q (out), 9 2Q (out), 10 2~{PRE} (in), 11 2CLK (in), 12 2D (in), 13 2~{CLR} (in)
part C pins: 7 GND (power), 14 VCC (power)
part A text: PRE; CLR
part B text: PRE; CLR

## SN74AHC74DGVR
designator U?
Dual Positive-Edge-Triggered D-Type Flip-Flops With Clear and Preset, DGV0014A, LARGE T&R; Generic Part Number: SN74AHC74; Manufacturer: Texas Instruments; PartNumber: SN74AHC74DGVR; VCC(Min)(V): 2; VCC(Max)(V): 5.5; Output Type: CMOS; Output: 3S; ICC @ Nom Voltage(Max)(mA): 0.02; F @ Nom Voltage(Max)(Mhz): 110; Rating: Catalog; Technology Family: AHC; Voltage(Nom)(V): 3.3,5; Schmitt Trigger: No; Output Drive (IOL/IOH)(Max)(mA): 50/-50; Output Logic: Inverted,Non-inverted; tpd @ Nom Voltage(Max)(ns): 17.5,10.5; DatasheetVersion: SCLS255K; PackageReference: DGV0014A; Supplier 1: Digi-Key; Supplier Part Number 1: 296-4622-2-ND; Supplier 2: Digi-Key; Supplier Part Number 2: 296-4622-1-ND; Supplier 3: Digi-Key; Supplier Part Number 3: 296-4622-6-ND; Supplier 4: Newark; Supplier Part Number 4: 76C1909; Supplier 5: Mouser; Supplier Part Number 5: 595-SN74AHC74DGVR; Input Type: CMOS; Bits(#): 2; Operating Temperature Range(C): -40 to 125; 3-State Output: No; Code_JEDEC: MO-194; ComponentLink1Description: Manufacturer URL; ComponentLink1URL: http://www.ti.com/; ComponentLink2Description: Datasheet; ComponentLink2URL: http://www.ti.com/lit/ds/symlink/sn74ahc74.pdf; ComponentLink3Description: Package Specification; ComponentLink3URL: http://www.ti.com/lit/ml/mpds006c/mpds006c.pdf
footprint DGV0014A_N (SOP, 14-Leads, Body 4.5x3.7mm, Pitch 0.4mm, IPC Medium Density)
footprint DGV0014A_M (SOP, 14-Leads, Body 4.5x3.7mm, Pitch 0.4mm, IPC Low Density)
footprint DGV0014A_L (SOP, 14-Leads, Body 4.5x3.7mm, Pitch 0.4mm, IPC High Density)
part A pins: 1 1~{CLR} (in), 2 1D (in), 3 1CLK (in), 4 1~{PRE} (in), 5 1Q (out), 6 1Q (out)
part B pins: 8 2Q (out), 9 2Q (out), 10 2~{PRE} (in), 11 2CLK (in), 12 2D (in), 13 2~{CLR} (in)
part C pins: 7 GND (power), 14 VCC (power)
part A text: PRE; CLR
part B text: PRE; CLR

## SN74AHC74DR
designator U?
Dual Positive-Edge-Triggered D-Type Flip-Flops With Clear and Preset, D0014A, LARGE T&R; Generic Part Number: SN74AHC74; Manufacturer: Texas Instruments; PartNumber: SN74AHC74DR; VCC(Min)(V): 2; VCC(Max)(V): 5.5; Output Type: CMOS; Output: 3S; ICC @ Nom Voltage(Max)(mA): 0.02; F @ Nom Voltage(Max)(Mhz): 110; Rating: Catalog; Technology Family: AHC; Voltage(Nom)(V): 3.3,5; Schmitt Trigger: No; Output Drive (IOL/IOH)(Max)(mA): 50/-50; Output Logic: Inverted,Non-inverted; tpd @ Nom Voltage(Max)(ns): 17.5,10.5; DatasheetVersion: SCLS255K; PackageReference: D0014A; Supplier 1: Digi-Key; Supplier Part Number 1: 296-1105-2-ND; Supplier 2: Digi-Key; Supplier Part Number 2: 296-1105-1-ND; Supplier 3: Digi-Key; Supplier Part Number 3: 296-1105-6-ND; Supplier 4: Farnell; Supplier Part Number 4: 1621017; Supplier 5: Farnell; Supplier Part Number 5: 2436841; Supplier 6: Farnell; Supplier Part Number 6: 1621017RL; Supplier 7: Newark; Supplier Part Number 7: 94T5024; Supplier 8: Newark; Supplier Part Number 8: 76C1910; Supplier 9: Mouser; Supplier Part Number 9: 595-SN74AHC74DR; Input Type: CMOS; Bits(#): 2; Operating Temperature Range(C): -40 to 125; 3-State Output: No; Code_JEDEC: MS-012; ComponentLink1Description: Manufacturer URL; ComponentLink1URL: http://www.ti.com/; ComponentLink2Description: Datasheet; ComponentLink2URL: http://www.ti.com/lit/ds/symlink/sn74ahc74.pdf; ComponentLink3Description: Package Specification; ComponentLink3URL: http://www.ti.com/lit/ml/mpds177g/mpds177g.pdf
footprint D0014A_N (SOIC, 14-Leads, Body 8.75x4mm, Pitch 1.27mm, IPC Medium Density)
footprint D0014A_M (SOIC, 14-Leads, Body 8.75x4mm, Pitch 1.27mm, IPC Low Density)
footprint D0014A_L (SOIC, 14-Leads, Body 8.75x4mm, Pitch 1.27mm, IPC High Density)
part A pins: 1 1~{CLR} (in), 2 1D (in), 3 1CLK (in), 4 1~{PRE} (in), 5 1Q (out), 6 1Q (out)
part B pins: 8 2Q (out), 9 2Q (out), 10 2~{PRE} (in), 11 2CLK (in), 12 2D (in), 13 2~{CLR} (in)
part C pins: 7 GND (power), 14 VCC (power)
part A text: PRE; CLR
part B text: PRE; CLR